# Altium footprint library PcbLib.PcbLib: 145 footprints (part 8 of 10)
Each footprint in its own frame and in the unit in brackets; x right, y up, seen from the top. Pads: shape width x height; smd on the part's side, far side on the other; paste and mask are expansions set on the pad; w line width, h text height; cw(c..) or ccw(c..) is an arc to the next point about the centre after c.
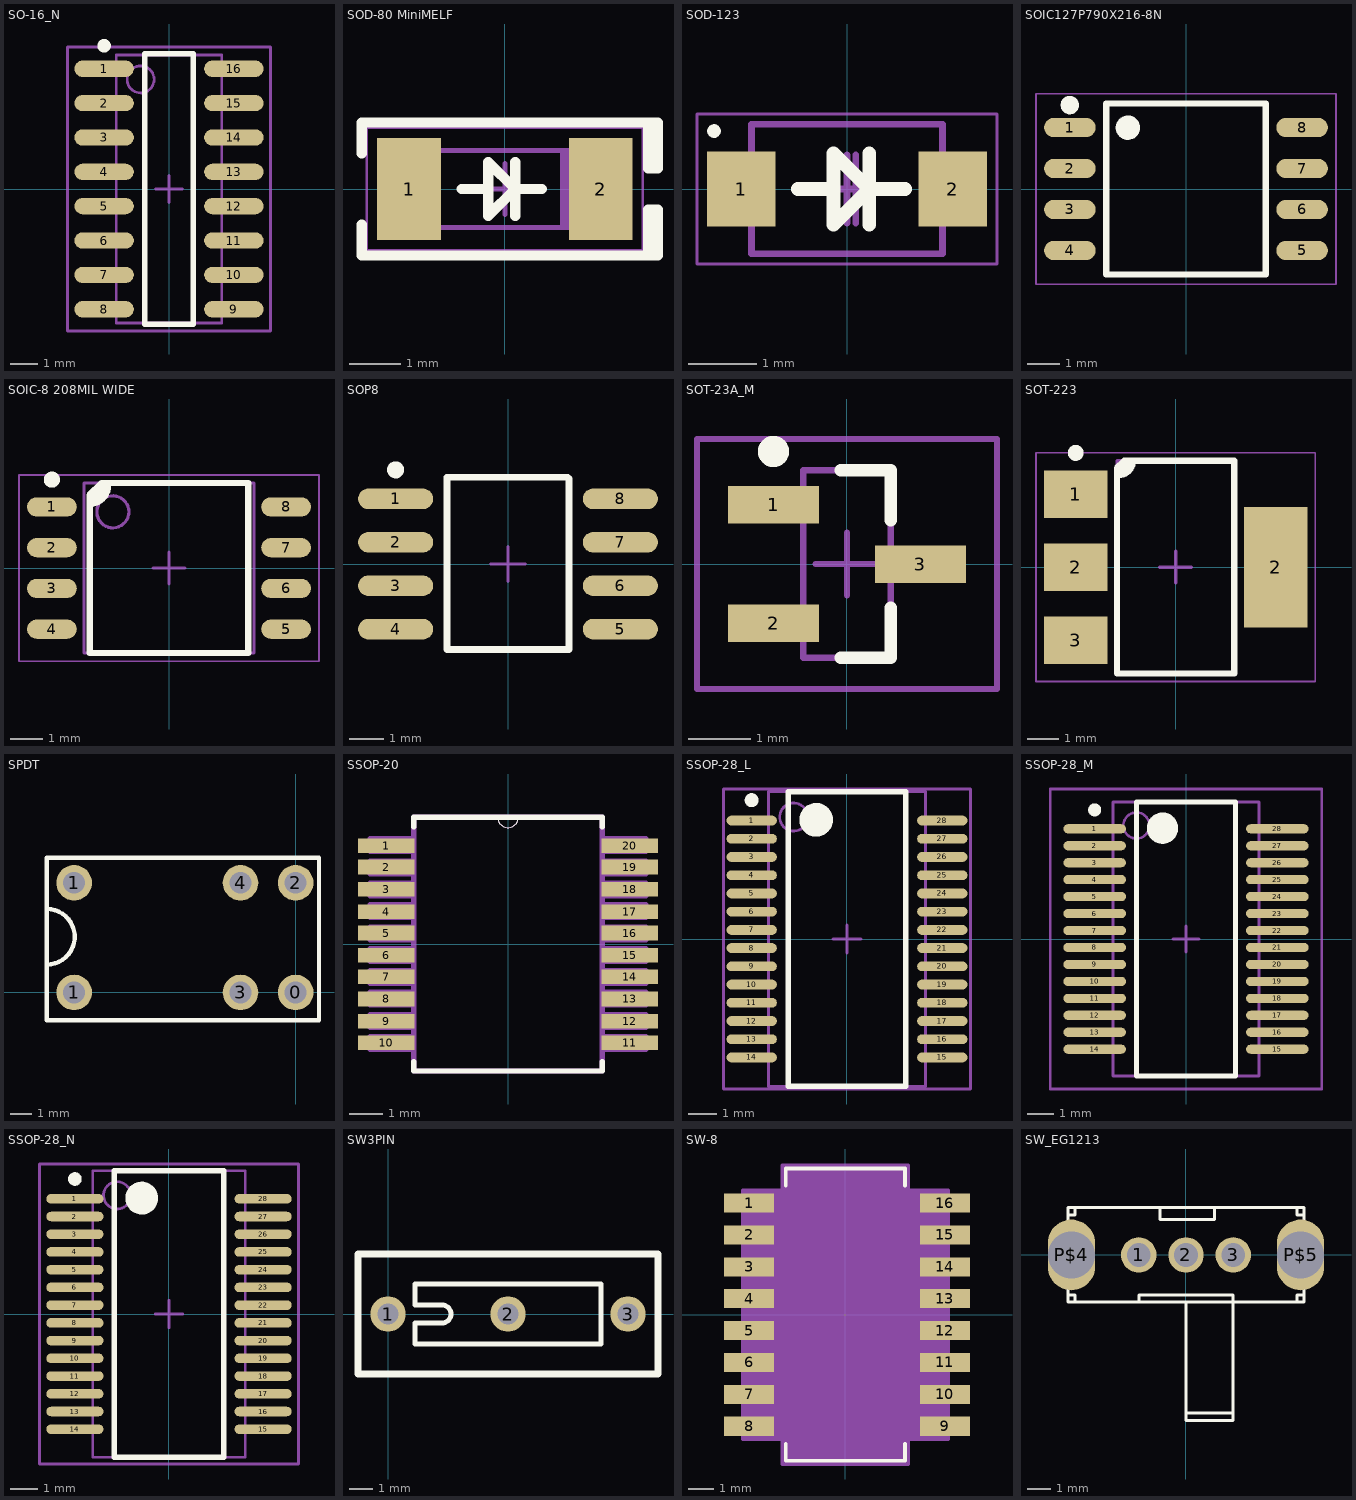
[diagram p7: the footprints below, top view; thin cyan lines are the x and y axes]

## SO-16_N [mm] "16-Pin Small Outline Integrated Circuit 1.27 mm Pitch, IPC Medium Density"
height 1.75
pads (16):
  oval 2.2x0.6 smd: 1(-2.4,4.445) 2(-2.4,3.175) 3(-2.4,1.905) 4(-2.4,0.635) 5(-2.4,-0.635) 6(-2.4,-1.905) 7(-2.4,-3.175) 8(-2.4,-4.445) 9(2.4,-4.445) 10(2.4,-3.175) 11(2.4,-1.905) 12(2.4,-0.635) 13(2.4,0.635) 14(2.4,1.905) 15(2.4,3.175) 16(2.4,4.445)
Top Overlay:
  circle w0.25: c-2.4,5.295 r0.125
  lines w0.2: -0.9,-5 -0.9,5 0.9,5 0.9,-5 -0.9,-5
Mechanical 13:
  circle w0.1: c-1.05,4.05 r0.5
  lines w0.1: -1.95,-4.95 -1.95,4.95 1.95,4.95 1.95,-4.95 -1.95,-4.95
Mechanical 15:
  lines w0.1: -0.5,0 0.5,0 ; 0,-0.5 0,0.5 ; -3.75,-5.25 -3.75,5.25 3.75,5.25 3.75,-5.25 -3.75,-5.25
3D body: height 1.75, standoff 0, extent -1.95,-4.95 1.95,4.95

## SOD-80 MiniMELF [mm] "Molded Diode, 2-Leads, Body 3.40x1.50mm, IPC Medium Density"
height 1.5
pads (2):
  rect 1.25x2 smd: 1(-1.875,0) 2(1.875,0)
Top Overlay:
  lines w0.2: -2.8,-0.7 -2.8,-1.3 2.994,-1.3 2.994,-0.4 2.8,-0.4 2.8,-1.2 ; -2.8,0.7 -2.8,1.3 2.994,1.3 2.994,0.4 2.8,0.4 2.8,1.2 ; -0.85,0 -0.325,0 ; 0.2,-0.525 0.2,0.525 ; 0.725,0 0.2,0 ; 0.2,0 -0.325,0.525 -0.325,-0.525 0.2,0
Mechanical 13:
  rectangle: 1.081,-0.75 1.7,0.75
  lines w0.1: -1.7,-0.75 1.7,-0.75 1.7,0.75 -1.7,0.75 -1.7,-0.75
Mechanical 15:
  lines w0.05: -2.7,-1.2 -2.7,1.2 2.7,1.2 2.7,-1.2 -2.7,-1.2
  lines w0.1: -0.5,0 0.5,0 ; 0,-0.5 0,0.5
3D body "SOD-80 MiniMELF.step": height 1.5, standoff 0, extent -1.7,-0.751 1.7,0.751

## SOD-123 [mm] "SODFL, 2-Leads, Body 1.70x3.50mm, IPC Medium Density"
height 1.1
pads (2):
  rect 1x1.1 smd: 1(-1.55,0) 2(1.55,0)
Top Overlay:
  circle w0.1: c-1.95,0.85 r0.05
  lines w0.2: -0.723,0 -0.198,0 ; 0.327,-0.525 0.327,0.525 ; 0.852,0 0.327,0 ; 0.327,0 -0.198,-0.525 -0.198,0.525 0.327,0
Mechanical 13:
  lines w0.1: -1.4,-0.95 -1.4,0.95 1.4,0.95 1.4,-0.95 -1.4,-0.95
Mechanical 15:
  lines w0.05: -2.2,-1.1 -2.2,1.1 2.2,1.1 2.2,-1.1 -2.2,-1.1
  lines w0.1: -0.5,0 0.5,0 ; -0.373,0 0.627,0 ; 0,-0.5 0,0.5 ; 0.127,-0.5 0.127,0.5
3D body "SODFL350X110-2N.step": height 1.1, standoff 0, extent -1.75,-0.95 1.75,0.95

## SOIC127P790X216-8N [mm]
pads (8):
  oval 1.6x0.6 smd: 1(-3.6,1.905) 2(-3.6,0.635) 3(-3.6,-0.635) 4(-3.6,-1.905) 5(3.6,-1.905) 6(3.6,-0.635) 7(3.6,0.635) 8(3.6,1.905)
Top Overlay:
  circle w0.127: c-3.6,2.6 r0.1
  circle w0.127: c-3.5,2.6 r0.1
  circle w0.127: c-3.6,2.6 r0.224
  circle w0.127: c-1.8,1.8 r0.1
  circle w0.127: c-1.8,1.9 r0.1
  circle w0.127: c-1.8,1.9 r0.141
  circle w0.127: c-1.8,1.9 r0.224
  circle w0.127: c-1.8,1.9 r0.316
  lines w0.2: -2.475,-2.65 -2.475,2.65 2.475,2.65 2.475,-2.65 -2.475,-2.65
Mechanical 15:
  lines w0.05: -4.65,-2.95 -4.65,2.95 4.65,2.95 4.65,-2.95 -4.65,-2.95
3D body "step_temp.STEP": height 2.16, standoff 0, extent -3.95,-2.64 3.95,2.64

## SOIC-8 208MIL WIDE [mm] "SOIC, 8-Leads, Body 5.28x5.28mm, Pitch 1.27mm, IPC Medium Density"
height 2.16
pads (8):
  oval 1.55x0.6 smd: 1(-3.65,1.905) 2(-3.65,0.635) 3(-3.65,-0.635) 4(-3.65,-1.905) 5(3.65,-1.905) 6(3.65,-0.635) 7(3.65,0.635) 8(3.65,1.905)
Top Overlay:
  circle w0.25: c-3.65,2.755 r0.125
  region: -2.1,2.65 -1.9,2.65 -1.9,2.575 -1.9,2.461 -1.988,2.249 -2.149,2.088 -2.361,2 -2.475,2 -2.475,2.275
  lines w0.2: -2.475,2 ccw(c-2.475,2.575) -1.9,2.575 ; -2.475,-2.65 -2.475,2.275 -2.1,2.65 2.475,2.65 2.475,-2.65 -2.475,-2.65
Mechanical 13:
  circle w0.1: c-1.75,1.75 r0.5
  lines w0.1: -2.65,-2.65 -2.65,2.65 2.65,2.65 2.65,-2.65 -2.65,-2.65
Mechanical 15:
  lines w0.05: -4.675,-2.9 -4.675,2.9 4.675,2.9 4.675,-2.9 -4.675,-2.9
  lines w0.1: -0.5,0 0.5,0 ; 0,-0.5 0,0.5
3D body "SO-8 208mil.STEP": height 1.5, standoff 0, extent -4.014,-2.642 4.014,2.641

## SOP8 [mm]
height 1.09
pads (8):
  oval 2.2x0.6 smd: 1(-3.289,1.905) 2(-3.289,0.635) 3(-3.289,-0.635) 4(-3.289,-1.905) 5(3.289,-1.905) 6(3.289,-0.635) 7(3.289,0.635) 8(3.289,1.905)
Top Overlay:
  circle w0.25: c-3.289,2.755 r0.125
  lines w0.2: 1.749,2.54 -1.789,2.54 -1.789,-2.5 1.789,-2.5 1.789,2.5
Mechanical 15:
  lines w0.1: -0.5,0 0.5,0 ; 0,-0.5 0,0.5

## SOT-23A_M [mm]
pads (3):
  rect 1.45x0.6 smd: 1(-1.175,0.95) 2(-1.175,-0.95) 3(1.175,0)
Top Overlay:
  circle w0.25: c-1.175,1.8 r0.125
  lines w0.2: -0.1,-1.5 0.7,-1.5 0.7,-0.7 ; -0.1,1.5 0.7,1.5 0.7,0.7
Mechanical 13:
  lines w0.1: -0.7,-1.5 -0.7,1.5 0.7,1.5 0.7,-1.5 -0.7,-1.5
Mechanical 15:
  lines w0.1: -0.5,0 0.5,0 ; 0,-0.5 0,0.5 ; -2.4,-2 -2.4,2 2.4,2 2.4,-2 -2.4,-2
3D body: height 1.09, standoff 0, extent -0.7,-1.5 0.7,1.5

## SOT-223 [mm] "SOT223, 4-Leads, Body 6.50x7.00mm (avg), Pitch 2.30mm, IPC Medium Density"
height 1.8
pads (4):
  rect 2x1.5 smd: 1(-3.15,2.3) 2(-3.15,0) 3(-3.15,-2.3)
  rect 2x3.8 smd: 2(3.15,0)
Top Overlay:
  circle w0.25: c-3.15,3.6 r0.125
  region: -1.65,3.275 -1.35,3.35 -1.35,3.2 -1.65,2.9 -1.85,2.9
  lines w0.2: -1.85,2.9 -1.8,2.9 ccw(c-1.8,3.35) -1.35,3.35 ; -1.85,-3.35 1.85,-3.35 1.85,3.35 -1.625,3.35 -1.85,3.125 -1.85,-3.35
Mechanical 13:
  lines w0.1: -1.85,-3.35 -1.85,3.35 1.85,3.35 1.85,-3.35 -1.85,-3.35
Mechanical 15:
  lines w0.05: -4.4,-3.6 -4.4,3.6 4.4,3.6 4.4,-3.6 -4.4,-3.6
  lines w0.1: -0.5,0 0.5,0 ; 0,-0.5 0,0.5
3D body "SOT-223.STEP": height 1.8, standoff 0, extent -3.516,-3.25 3.5,3.25

## SPDT [mil] "Relay"
pads (6):
  round 64 hole 39.37: 0(0,0) 1(-397.96,0) 1(-397.96,197) 2(0,197) 3(-98.98,0) 4(-99,197)
Top Overlay:
  lines w7.87: -447.08,242 41.11,242 ; -447,50 ccw(c-447,100) -447,150 ; -447,242 -447,-50 42,-50 ; 42,-49.38 42,241.96

## SSOP-20 [mil]
pads (20):
  rect 66x17 smd: 1(-142,115) 2(-142,90) 3(-142,64) 4(-142,38) 5(-142,13) 6(-142,-13) 7(-142,-38) 8(-142,-64) 9(-142,-90) 10(-142,-115) 11(142,-115) 12(142,-90) 13(142,-64) 14(142,-38) 15(142,-13) 16(142,13) 17(142,38) 18(142,64) 19(142,90) 20(142,115)
Top Overlay:
  lines w0: -12,148 ccw(c0,148) 12,148
  lines w6: -110,-137 -110,-148 110,-148 110,-137 ; -110,137 -110,148 -12,148 12,148 110,148 110,137
Mechanical 13:
  lines w0: -12,148 ccw(c0,148) 12,148
  lines w6: -161,-123 -161,-108 -110,-108 -110,-123 -161,-123 ; -161,-97 -161,-82 -110,-82 -110,-97 -161,-97 ; -161,-71 -161,-56 -110,-56 -110,-71 -161,-71 ; -161,-46 -161,-31 -110,-31 -110,-46 -161,-46 ; -161,-20 -161,-5 -110,-5 -110,-20 -161,-20 ; -161,5 -161,20 -110,20 -110,5 -161,5 ; -161,31 -161,46 -110,46 -110,31 -161,31 ; -161,56 -161,71 -110,71 -110,56 -161,56 ; -161,82 -161,97 -110,97 -110,82 -161,82 ; -161,108 -161,123 -110,123 -110,108 -161,108 ; -110,-148 110,-148 110,148 12,148 -12,148 -110,148 -110,-148 ; 110,-123 110,-108 161,-108 161,-123 110,-123 ; 110,-97 110,-82 161,-82 161,-97 110,-97 ; 110,-71 110,-56 161,-56 161,-71 110,-71 ; 110,-46 110,-31 161,-31 161,-46 110,-46 ; 110,-20 110,-5 161,-5 161,-20 110,-20 ; 110,5 110,20 161,20 161,5 110,5 ; 110,31 110,46 161,46 161,31 110,31 ; 110,56 110,71 161,71 161,56 110,56 ; 110,82 110,97 161,97 161,82 110,82 ; 110,108 110,123 161,123 161,108 110,108
3D body "SS.STEP": height 78.74, standoff 0, extent -153.54,-141.72 153.55,141.74

## SSOP-28_L [mm] "SOP, 28-Leads, Body 10.2x5.3mm, Pitch 0.65mm, IPC High Density"
height 2
pads (28):
  oval 1.8x0.35 smd: 1(-3.4,4.225) 2(-3.4,3.575) 3(-3.4,2.925) 4(-3.4,2.275) 5(-3.4,1.625) 6(-3.4,0.975) 7(-3.4,0.325) 8(-3.4,-0.325) 9(-3.4,-0.975) 10(-3.4,-1.625) 11(-3.4,-2.275) 12(-3.4,-2.925) 13(-3.4,-3.575) 14(-3.4,-4.225) 15(3.4,-4.225) 16(3.4,-3.575) 17(3.4,-2.925) 18(3.4,-2.275) 19(3.4,-1.625) 20(3.4,-0.975) 21(3.4,-0.325) 22(3.4,0.325) 23(3.4,0.975) 24(3.4,1.625) 25(3.4,2.275) 26(3.4,2.925) 27(3.4,3.575) 28(3.4,4.225)
Top Overlay:
  circle w0.6: c-1.1,4.25 r0.3
  circle w0.25: c-3.4,4.95 r0.125
  lines w0.2: -2.1,-5.25 2.1,-5.25 2.1,5.25 -2.1,5.25 -2.1,-5.25
Mechanical 13:
  circle w0.1: c-1.9,4.35 r0.5
  lines w0.1: -2.8,-5.25 2.8,-5.25 2.8,5.25 -2.8,5.25 -2.8,-5.25
Mechanical 15:
  lines w0.1: -0.5,0 0.5,0 ; 0,-0.5 0,0.5 ; -4.4,-5.35 4.4,-5.35 4.4,5.35 -4.4,5.35 -4.4,-5.35
3D body: height 2, standoff 0.05, extent -2.8,-5.25 2.8,5.25

## SSOP-28_M [mm] "SOP, 28-Leads, Body 10.2x5.3mm, Pitch 0.65mm, IPC Low Density"
height 2
pads (28):
  oval 2.4x0.35 smd: 1(-3.5,4.225) 2(-3.5,3.575) 3(-3.5,2.925) 4(-3.5,2.275) 5(-3.5,1.625) 6(-3.5,0.975) 7(-3.5,0.325) 8(-3.5,-0.325) 9(-3.5,-0.975) 10(-3.5,-1.625) 11(-3.5,-2.275) 12(-3.5,-2.925) 13(-3.5,-3.575) 14(-3.5,-4.225) 15(3.5,-4.225) 16(3.5,-3.575) 17(3.5,-2.925) 18(3.5,-2.275) 19(3.5,-1.625) 20(3.5,-0.975) 21(3.5,-0.325) 22(3.5,0.325) 23(3.5,0.975) 24(3.5,1.625) 25(3.5,2.275) 26(3.5,2.925) 27(3.5,3.575) 28(3.5,4.225)
Top Overlay:
  circle w0.6: c-0.9,4.25 r0.3
  circle w0.25: c-3.5,4.95 r0.125
  lines w0.2: -1.9,-5.25 1.9,-5.25 1.9,5.25 -1.9,5.25 -1.9,-5.25
Mechanical 13:
  circle w0.1: c-1.9,4.35 r0.5
  lines w0.1: -2.8,-5.25 2.8,-5.25 2.8,5.25 -2.8,5.25 -2.8,-5.25
Mechanical 15:
  lines w0.1: -0.5,0 0.5,0 ; 0,-0.5 0,0.5 ; -5.2,-5.75 5.2,-5.75 5.2,5.75 -5.2,5.75 -5.2,-5.75
3D body: height 2, standoff 0.05, extent -2.8,-5.25 2.8,5.25

## SSOP-28_N [mm] "SOP, 28-Leads, Body 10.2x5.3mm, Pitch 0.65mm, IPC Medium Density"
height 2
pads (28):
  oval 2.1x0.35 smd: 1(-3.45,4.225) 2(-3.45,3.575) 3(-3.45,2.925) 4(-3.45,2.275) 5(-3.45,1.625) 6(-3.45,0.975) 7(-3.45,0.325) 8(-3.45,-0.325) 9(-3.45,-0.975) 10(-3.45,-1.625) 11(-3.45,-2.275) 12(-3.45,-2.925) 13(-3.45,-3.575) 14(-3.45,-4.225) 15(3.45,-4.225) 16(3.45,-3.575) 17(3.45,-2.925) 18(3.45,-2.275) 19(3.45,-1.625) 20(3.45,-0.975) 21(3.45,-0.325) 22(3.45,0.325) 23(3.45,0.975) 24(3.45,1.625) 25(3.45,2.275) 26(3.45,2.925) 27(3.45,3.575) 28(3.45,4.225)
Top Overlay:
  circle w0.6: c-1,4.25 r0.3
  circle w0.25: c-3.45,4.95 r0.125
  lines w0.2: -2,-5.25 2,-5.25 2,5.25 -2,5.25 -2,-5.25
Mechanical 13:
  circle w0.1: c-1.9,4.35 r0.5
  lines w0.1: -2.8,-5.25 2.8,-5.25 2.8,5.25 -2.8,5.25 -2.8,-5.25
Mechanical 15:
  lines w0.1: -0.5,0 0.5,0 ; 0,-0.5 0,0.5 ; -4.75,-5.5 4.75,-5.5 4.75,5.5 -4.75,5.5 -4.75,-5.5
3D body: height 2, standoff 0.05, extent -2.8,-5.25 2.8,5.25

## SW3PIN [mm] "DIP 13*6mm"
pads (3):
  round 1.5 hole 0.9: 1(0,0) 2(5.08,0) 3(10.16,0)
Top Overlay:
  lines w0.203: 1.143,-1.27 9.017,-1.27 9.017,1.27 8.509,1.27 1.143,1.27 1.143,0.381 2.286,0.381 cw(c2.286,0) 2.667,0 cw(c2.286,0) 2.286,-0.381 1.143,-0.381 1.143,-1.27
  lines w0.305: -1.27,-2.54 -1.27,2.54 11.43,2.54 11.43,-2.54 -1.27,-2.54

## SW-8 [mm]
pads (16):
  rect 2x0.76 smd paste+0 mask+0: 1(-3.837,4.445) 2(-3.837,3.175) 3(-3.837,1.905) 4(-3.837,0.635) 5(-3.837,-0.635) 6(-3.837,-1.905) 7(-3.837,-3.175) 8(-3.837,-4.445) 9(3.964,-4.445) 10(3.964,-3.175) 11(3.964,-1.905) 12(3.964,-0.635) 13(3.964,0.635) 14(3.964,1.905) 15(3.964,3.175) 16(3.964,4.445)
Top Overlay:
  lines w0.152: -2.377,-5.15 -2.377,-5.822 2.377,-5.822 2.377,-5.15 ; -2.377,5.15 -2.377,5.822 2.377,5.822 2.377,5.15
Mechanical 13:
  region: 0,4.065 0,4.825 1.125,4.825 1.125,4.065
  region: 0,2.795 0,3.555 1.125,3.555 1.125,2.795
  region: 0,1.525 0,2.285 1.125,2.285 1.125,1.525
  region: 0,0.255 0,1.015 1.125,1.015 1.125,0.255
  region: 0,-1.015 0,-0.255 1.125,-0.255 1.125,-1.015
  region: 0,-2.285 0,-1.525 1.125,-1.525 1.125,-2.285
  region: 0,-3.555 0,-2.795 1.125,-2.795 1.125,-3.555
  region: 0,-4.825 0,-4.065 1.125,-4.065 1.125,-4.825
  lines w0: -0.305,5.695 ccw(c0,5.695) 0.305,5.695
  lines w0.025: -2.25,-5.695 2.25,-5.695 2.25,5.695 -2.25,5.695 -2.25,-5.695 ; -1.125,-4.825 1.125,-4.825 1.125,-4.065 -1.125,-4.065 -1.125,-4.825 ; -1.125,-3.555 1.125,-3.555 1.125,-2.795 -1.125,-2.795 -1.125,-3.555 ; -1.125,-2.285 1.125,-2.285 1.125,-1.525 -1.125,-1.525 -1.125,-2.285 ; -1.125,-1.015 1.125,-1.015 1.125,-0.255 -1.125,-0.255 -1.125,-1.015 ; -1.125,0.255 1.125,0.255 1.125,1.015 -1.125,1.015 -1.125,0.255 ; -1.125,1.525 1.125,1.525 1.125,2.285 -1.125,2.285 -1.125,1.525 ; -1.125,2.795 1.125,2.795 1.125,3.555 -1.125,3.555 -1.125,2.795 ; -1.125,4.065 1.125,4.065 1.125,4.825 -1.125,4.825 -1.125,4.065
Mechanical 15:
  region: 2.504,-5.949 -2.504,-5.949 -2.504,-4.953 -4.091,-4.953 -4.091,4.953 -2.504,4.953 -2.504,5.949 2.504,5.949 2.504,4.953 4.091,4.953 4.091,-4.953 2.504,-4.953
  lines w0.152: -4.091,-4.953 -2.504,-4.953 -2.504,-5.949 2.504,-5.949 2.504,-4.953 4.091,-4.953 4.091,4.953 2.504,4.953 2.504,5.949 -2.504,5.949 -2.504,4.953 -4.091,4.953 -4.091,-4.953
3D body: height 0.25, standoff 0, extent -2.413,-5.715 2.286,5.715

## SW_EG1213 [mm]
pads (5):
  round 1.5 hole 1: 1(-2,0) 2(0,0) 3(2,0)
  oval 2x3 hole 2: P$4(-4.85,0) P$5(4.85,0)
Top Overlay:
  lines w0.127: -5,-1.3 -5,-2 -2,-2 ; -5,1.3 -5,2 5,2 5,1.3 ; 5,-1.3 5,-2 2,-2 0,-2 ; -4.7,-1.7 -4.7,-2 -4.7,-1.7 ; -4.7,-1.7 -5,-1.7 -4.7,-1.7 ; -4.7,1.7 -5,1.7 -4.7,1.7 ; -4.7,1.7 -4.7,2 -4.7,1.7 ; -2,-2 0,-2 ; -2,-2 -2,-1.7 ; -2,-2 -2,-1.7 ; -2,-1.7 2,-1.7 ; -2,-1.7 2,-1.7 ; -1.1,1.5 1.2,1.5 ; -1.1,1.5 -1.1,2 -1.1,1.5 ; -1.1,1.5 1.2,1.5 ; 0,-7 0,-6.7 ; 0,-7 2,-7 ; 0,-7 0,-6.7 ; 0,-7 2,-7 ; 0,-6.7 2,-6.7 ; 0,-6.7 0,-2 ; 0,-6.7 2,-6.7 ; 0,-6.7 0,-2 ; 1.2,1.5 1.2,2 1.2,1.5 ; 2,-7 2,-6.7 ; 2,-7 2,-6.7 ; 2,-6.7 2,-1.7 ; 2,-6.7 2,-1.7 ; 4.7,-1.7 5,-1.7 4.7,-1.7 ; 4.7,-1.7 4.7,-2 4.7,-1.7 ; 4.7,1.7 5,1.7 4.7,1.7 ; 4.7,1.7 4.7,2 4.7,1.7